# Altium footprint library PANA_FK_TYPEB.PcbLib: 1 footprints
Each footprint in its own frame and in the unit in brackets; x right, y up, seen from the top. Pads: shape width x height; smd on the part's side, far side on the other; paste and mask are expansions set on the pad; w line width, h text height; cw(c..) or ccw(c..) is an arc to the next point about the centre after c.
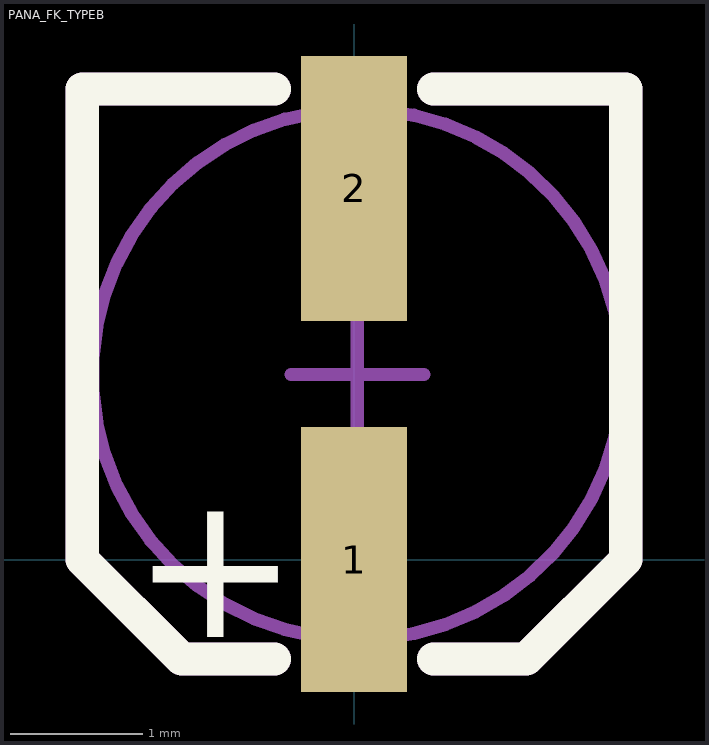
[diagram p0: the footprint, top view; thin cyan lines are the x and y axes]

## PANA_FK_TYPEB [mm]
pads (2):
  rect 0.799x2 smd: 1(0,0) 2(0,2.8)
Top Overlay:
  lines w0.25: -0.6,-0.75 -1.3,-0.75 -2.05,0 -2.05,3.55 -0.6,3.55 ; 0.6,-0.75 1.3,-0.75 2.05,0 2.05,3.55 0.6,3.55
  text "+" at -1.676,-0.584 h1.12
Mechanical 1:
  lines w0.25: -0.6,-0.75 -1.3,-0.75 -2.05,0 -2.05,3.55 -0.6,3.55 ; 0.6,-0.75 1.3,-0.75 2.05,0 2.05,3.55 0.6,3.55
Mechanical 13:
  circle w0.1: c0.025,1.397 r2
Mechanical 15:
  lines w0.1: -0.475,1.397 0.525,1.397 ; 0.025,0.897 0.025,1.897
3D body: height 6.1, standoff 0, extent -1.971,-0.587 2.021,3.397